# EAGLE library part TUSB8041 (library My_TI)
TUSB8041-Q1 Automotive Four-Port USB 3.0 Hub • Four Port USB 3.0 Hub • All USB 2.0 Hub Features • Supports Battery Charging Datasheet <http://www.ti.com/lit/ds/symlink/tusb8041-q1.pdf>
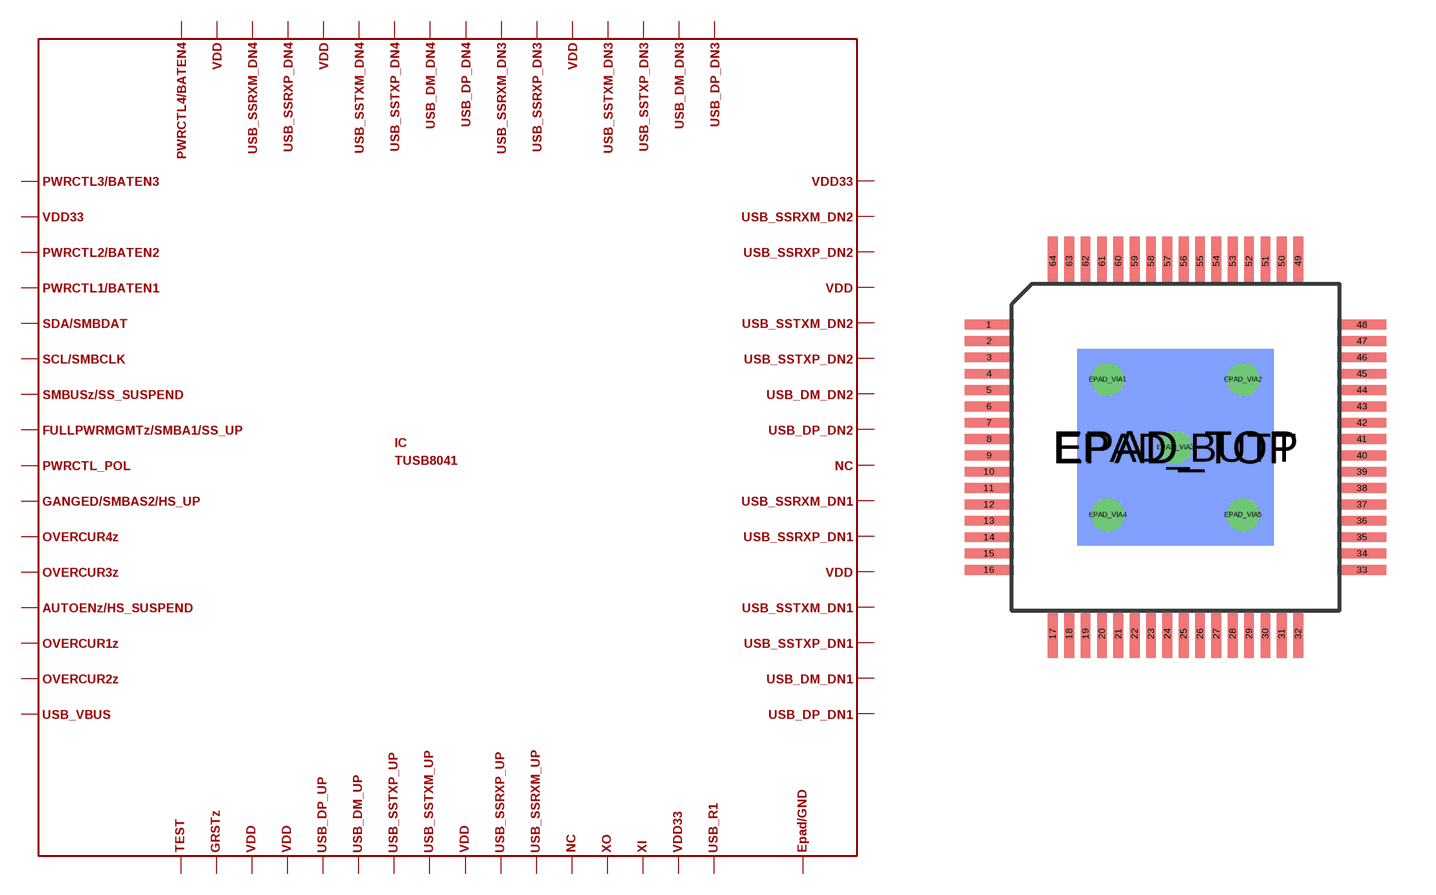
[diagram p56: symbol with the pads of PQFP64_PWRPD; footprint PQFP64_PWRPD]

Designator prefix IC

## TUSB8041  [PQFP64_PWRPD]
1  P$1
2  P$2
3  P$3
4  P$4
5  P$5
6  P$6
7  P$7
8  P$8
9  P$9
10  P$10
11  P$11
12  P$12
13  P$13
14  P$14
15  P$15
16  P$16
17  P$17
18  P$18
19  P$19
20  P$20
21  P$21
22  P$22
23  P$23
24  P$24
25  P$25
26  P$26
27  P$27
28  P$28
29  P$29
30  P$30
31  P$31
32  P$32
33  P$33
34  P$34
35  P$35
36  P$36
37  P$37
38  P$38
39  P$39
40  P$40
41  P$41
42  P$42
43  P$43
44  P$44
45  P$45
46  P$46
47  P$47
48  P$48
49  P$49
50  P$50
51  P$51
52  P$52
53  P$53
54  P$54
55  P$55
56  P$56
57  P$57
58  P$58
59  P$59
60  P$60
61  P$61
62  P$62
63  P$63
64  P$64
EPAD_BUTT  P$65
EPAD_TOP  P$65
EPAD_VIA1  P$65
EPAD_VIA2  P$65
EPAD_VIA3  P$65
EPAD_VIA4  P$65
EPAD_VIA5  P$65

## Footprint PQFP64_PWRPD (pad centres in mm)
PQFP64 Auto generated by make-symbol-device-package-bsdl.ulp Rev. 44
smd 1.5 x 0.3: 1 -5.7,3.75; 2 -5.7,3.25; 3 -5.7,2.75; 4 -5.7,2.25; 5 -5.7,1.75; 6 -5.7,1.25; 7 -5.7,0.75; 8 -5.7,0.25; 9 -5.7,-0.25; 10 -5.7,-0.75; 11 -5.7,-1.25; 12 -5.7,-1.75; 13 -5.7,-2.25; 14 -5.7,-2.75; 15 -5.7,-3.25; 16 -5.7,-3.75; 33 5.7,-3.75; 34 5.7,-3.25; 35 5.7,-2.75; 36 5.7,-2.25; 37 5.7,-1.75; 38 5.7,-1.25; 39 5.7,-0.75; 40 5.7,-0.25; 41 5.7,0.25; 42 5.7,0.75; 43 5.7,1.25; 44 5.7,1.75; 45 5.7,2.25; 46 5.7,2.75; 47 5.7,3.25; 48 5.7,3.75
smd 0.3 x 1.5: 17 -3.75,-5.7; 18 -3.25,-5.7; 19 -2.75,-5.7; 20 -2.25,-5.7; 21 -1.75,-5.7; 22 -1.25,-5.7; 23 -0.75,-5.7; 24 -0.25,-5.7; 25 0.25,-5.7; 26 0.75,-5.7; 27 1.25,-5.7; 28 1.75,-5.7; 29 2.25,-5.7; 30 2.75,-5.7; 31 3.25,-5.7; 32 3.75,-5.7; 49 3.75,5.7; 50 3.25,5.7; 51 2.75,5.7; 52 2.25,5.7; 53 1.75,5.7; 54 1.25,5.7; 55 0.75,5.7; 56 0.25,5.7; 57 -0.25,5.7; 58 -0.75,5.7; 59 -1.25,5.7; 60 -1.75,5.7; 61 -2.25,5.7; 62 -2.75,5.7; 63 -3.25,5.7; 64 -3.75,5.7
smd 6 x 6 bottom: EPAD_BUTT 0,0
smd 6 x 6: EPAD_TOP 0,0
drill 0.5: EPAD_VIA1 -2.07,2.07; EPAD_VIA2 2.07,2.07; EPAD_VIA3 0,0; EPAD_VIA4 -2.07,-2.07; EPAD_VIA5 2.07,-2.07